# EAGLE library part DAC80504RTER (library DAC80504)
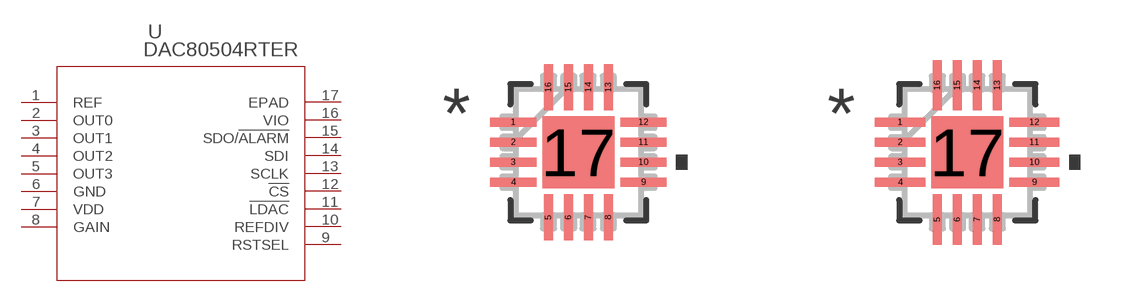
[diagram p0: symbol with the pads of RTE16_TEX; footprints RTE16_TEX, RTE16_TEX-M]

Designator prefix U

## DAC80504RTER (BUILT_BY: EMA_Jessica; COPYRIGHT: Copyright (C) 2018 Accelerated Designs. All rights reserved; MANUFACTURER_PART_NUMBER: DAC80504RTER; SOURCELIBRARY: TI_2020-05-18; VENDOR: Texas Instruments)  [RTE16_TEX]
1  REF
2  OUT0  out
3  OUT1  out
4  OUT2  out
5  OUT3  out
6  GND  pwr
7  VDD  pwr
8  GAIN  in
9  RSTSEL  in
10  REFDIV  in
11  !LDAC  in
12  !CS  in
13  SCLK  in
14  SDI  in
15  SDO/!ALARM  out
16  VIO  pwr
17  EPAD  pas

## DAC80504RTERRTE16_TEX-M (BUILT_BY: EMA_Jessica; COPYRIGHT: Copyright (C) 2018 Accelerated Designs. All rights reserved; MANUFACTURER_PART_NUMBER: DAC80504RTER; SOURCELIBRARY: TI_2020-05-18; VENDOR: Texas Instruments)  [RTE16_TEX-M]
Pads as for RTE16_TEX

## DAC80504RTERRTE16_TEX-L (BUILT_BY: EMA_Jessica; COPYRIGHT: Copyright (C) 2018 Accelerated Designs. All rights reserved; MANUFACTURER_PART_NUMBER: DAC80504RTER; SOURCELIBRARY: TI_2020-05-18; VENDOR: Texas Instruments)  [RTE16_TEX-L]
Pads as for RTE16_TEX

## Footprint RTE16_TEX (pad centres in mm)
smd 1.155 x 0.229: 1 -1.627,0.75; 2 -1.627,0.25; 3 -1.627,-0.25; 4 -1.627,-0.75; 9 1.627,-0.75; 10 1.627,-0.25; 11 1.627,0.25; 12 1.627,0.75
smd 0.229 x 1.155: 5 -0.75,-1.627; 6 -0.25,-1.627; 7 0.25,-1.627; 8 0.75,-1.627; 13 0.75,1.627; 14 0.25,1.627; 15 -0.25,1.627; 16 -0.75,1.627
smd 1.8 x 1.8: 17 0,0

## Footprint RTE16_TEX-M (pad centres in mm)
smd 1.256 x 0.229: 1 -1.678,0.75; 2 -1.678,0.25; 3 -1.678,-0.25; 4 -1.678,-0.75; 9 1.678,-0.75; 10 1.678,-0.25; 11 1.678,0.25; 12 1.678,0.75
smd 0.229 x 1.256: 5 -0.75,-1.678; 6 -0.25,-1.678; 7 0.25,-1.678; 8 0.75,-1.678; 13 0.75,1.678; 14 0.25,1.678; 15 -0.25,1.678; 16 -0.75,1.678
smd 1.8 x 1.8: 17 0,0

## Footprint RTE16_TEX-L (pad centres in mm)
smd 1.053 x 0.229: 1 -1.577,0.75; 2 -1.577,0.25; 3 -1.577,-0.25; 4 -1.577,-0.75; 9 1.577,-0.75; 10 1.577,-0.25; 11 1.577,0.25; 12 1.577,0.75
smd 0.229 x 1.053: 5 -0.75,-1.577; 6 -0.25,-1.577; 7 0.25,-1.577; 8 0.75,-1.577; 13 0.75,1.577; 14 0.25,1.577; 15 -0.25,1.577; 16 -0.75,1.577
smd 1.8 x 1.8: 17 0,0